# Altium footprint library VQFN32_5X5.pcblib: 1 footprints
Each footprint in its own frame and in the unit in brackets; x right, y up, seen from the top. Pads: shape width x height; smd on the part's side, far side on the other; paste and mask are expansions set on the pad; w line width, h text height; cw(c..) or ccw(c..) is an arc to the next point about the centre after c.
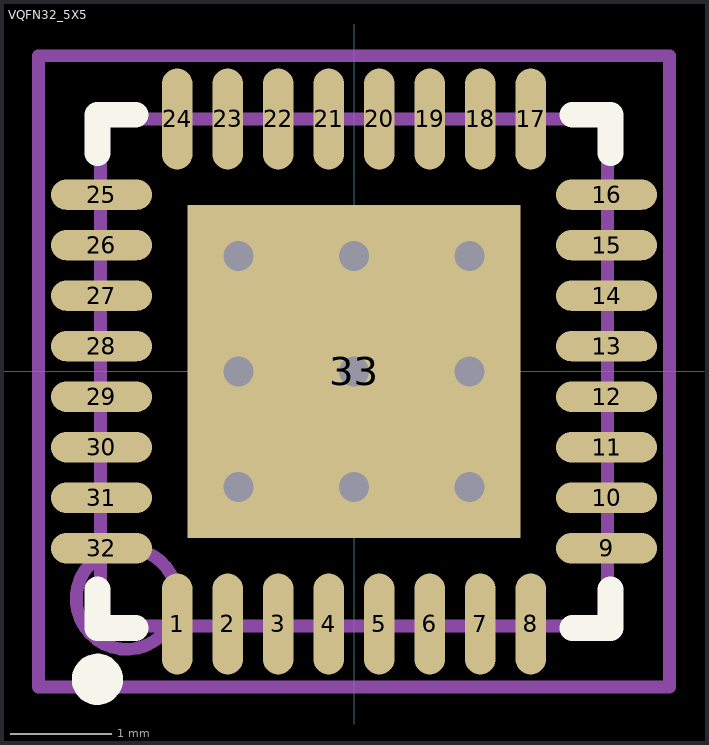
[diagram p0: the footprint, top view; thin cyan lines are the x and y axes]

## VQFN32_5X5 [mm]
pads (33):
  oval 0.3x1 smd mask+0.05: 1(-1.75,-2.5) 2(-1.25,-2.5) 3(-0.75,-2.5) 4(-0.25,-2.5) 5(0.25,-2.5) 6(0.75,-2.5) 7(1.25,-2.5) 8(1.75,-2.5) 17(1.75,2.5) 18(1.25,2.5) 19(0.75,2.5) 20(0.25,2.5) 21(-0.25,2.5) 22(-0.75,2.5) 23(-1.25,2.5) 24(-1.75,2.5)
  oval 1x0.3 smd mask+0.05: 9(2.5,-1.75) 10(2.5,-1.25) 11(2.5,-0.75) 12(2.5,-0.25) 13(2.5,0.25) 14(2.5,0.75) 15(2.5,1.25) 16(2.5,1.75) 25(-2.5,1.75) 26(-2.5,1.25) 27(-2.5,0.75) 28(-2.5,0.25) 29(-2.5,-0.25) 30(-2.5,-0.75) 31(-2.5,-1.25) 32(-2.5,-1.75)
  rect 3.3x3.3 smd paste-3.302 mask+0.05: 33(0,0)
via 0,0 diameter 0.6 hole 0.3
via 0,1.143 diameter 0.6 hole 0.3
via 1.143,1.143 diameter 0.6 hole 0.3
via 1.143,-1.143 diameter 0.6 hole 0.3
via 0,-1.143 diameter 0.6 hole 0.3
via -1.143,-1.143 diameter 0.6 hole 0.3
via -1.143,0 diameter 0.6 hole 0.3
via -1.143,1.143 diameter 0.6 hole 0.3
via 1.143,0 diameter 0.6 hole 0.3
Top Overlay:
  circle w0.254: c-2.54,-3.048 r0.127
  lines w0.254: -2.54,-2.159 -2.54,-2.54 -2.159,-2.54 ; -2.54,2.159 -2.54,2.54 -2.159,2.54 ; 2.159,-2.54 2.54,-2.54 2.54,-2.159 ; 2.159,2.54 2.54,2.54 2.54,2.159
Top Paste:
  region: 1.016,-0.127 1.016,-1.016 0.127,-1.016 0.127,-0.127
  region: -0.127,-1.016 -1.016,-1.016 -1.016,-0.127 -0.127,-0.127
  region: -1.016,0.127 -1.016,1.016 -0.127,1.016 -0.127,0.127
  region: 0.127,1.016 1.016,1.016 1.016,0.127 0.127,0.127
Top Assembly:
  lines w0.127: -2.51,-2.52 2.51,-2.52 2.51,2.5 -2.51,2.5 -2.51,-2.52
Top Courtyard:
  circle w0.127: c-2.25,-2.25 r0.5
  lines w0.127: -3.125,-3.125 3.125,-3.125 3.125,3.125 -3.125,3.125 -3.125,-3.125
3D body "User Library-qfn32-5x5.step": height 0.8, standoff 0, extent -2.51,-2.52 2.51,2.5